# EAGLE library part MT9D131 (library Supernode-Sensors)
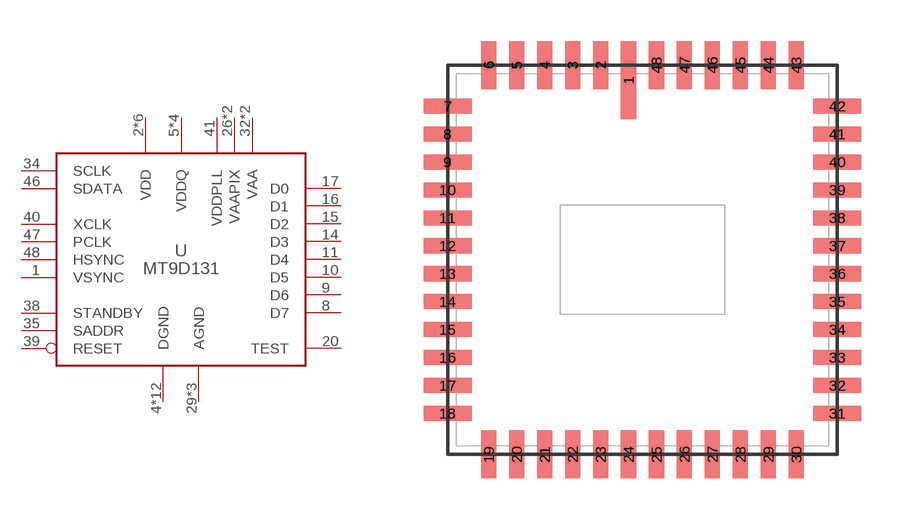
[diagram p0: symbol with the pads of CLCC; footprint CLCC]

Designator prefix U

## MT9D131  [CLCC]
1  VSYNC
2  VDD
3  VDD
4  DGND
5  VDDQ
6  DGND
7  DGND
8  D7
9  D6
10  D5
11  D4
12  VDD
13  DGND
14  D3
15  D2
16  D1
17  D0
18  DGND
19  DGND
20  TEST
21  VDDQ
22  VDDQ
23  DGND
24  VDD
25  VDD
26  VAAPIX
27  VAAPIX
28  DGND
29  AGND
30  AGND
31  AGND
32  VAA
33  VAA
34  SCLK
35  SADDR
36  VDD
37  DGND
38  STANDBY
39  RESET
40  XCLK
41  VDDPLL
42  DGND
43  DGND
44  VDDQ
45  DGND
46  SDATA
47  PCLK
48  HSYNC

## Footprint CLCC (pad centres in mm)
smd 0.55 x 2.85: 1 -0.51,6.56
smd 0.55 x 1.75: 2 -1.53,7.11; 3 -2.55,7.11; 4 -3.57,7.11; 5 -4.59,7.11; 6 -5.61,7.11; 19 -5.61,-7.11; 20 -4.59,-7.11; 21 -3.57,-7.11; 22 -2.55,-7.11; 23 -1.53,-7.11; 24 -0.51,-7.11; 25 0.51,-7.11; 26 1.53,-7.11; 27 2.55,-7.11; 28 3.57,-7.11; 29 4.59,-7.11; 30 5.61,-7.11; 43 5.61,7.11; 44 4.59,7.11; 45 3.57,7.11; 46 2.55,7.11; 47 1.53,7.11; 48 0.51,7.11
smd 1.75 x 0.55: 7 -7.11,5.61; 8 -7.11,4.59; 9 -7.11,3.57; 10 -7.11,2.55; 11 -7.11,1.53; 12 -7.11,0.51; 13 -7.11,-0.51; 14 -7.11,-1.53; 15 -7.11,-2.55; 16 -7.11,-3.57; 17 -7.11,-4.59; 18 -7.11,-5.61; 31 7.11,-5.61; 32 7.11,-4.59; 33 7.11,-3.57; 34 7.11,-2.55; 35 7.11,-1.53; 36 7.11,-0.51; 37 7.11,0.51; 38 7.11,1.53; 39 7.11,2.55; 40 7.11,3.57; 41 7.11,4.59; 42 7.11,5.61